# Altium schematic symbol library Converter_DCDC.SchLib: 658 symbols (part 6 of 7)
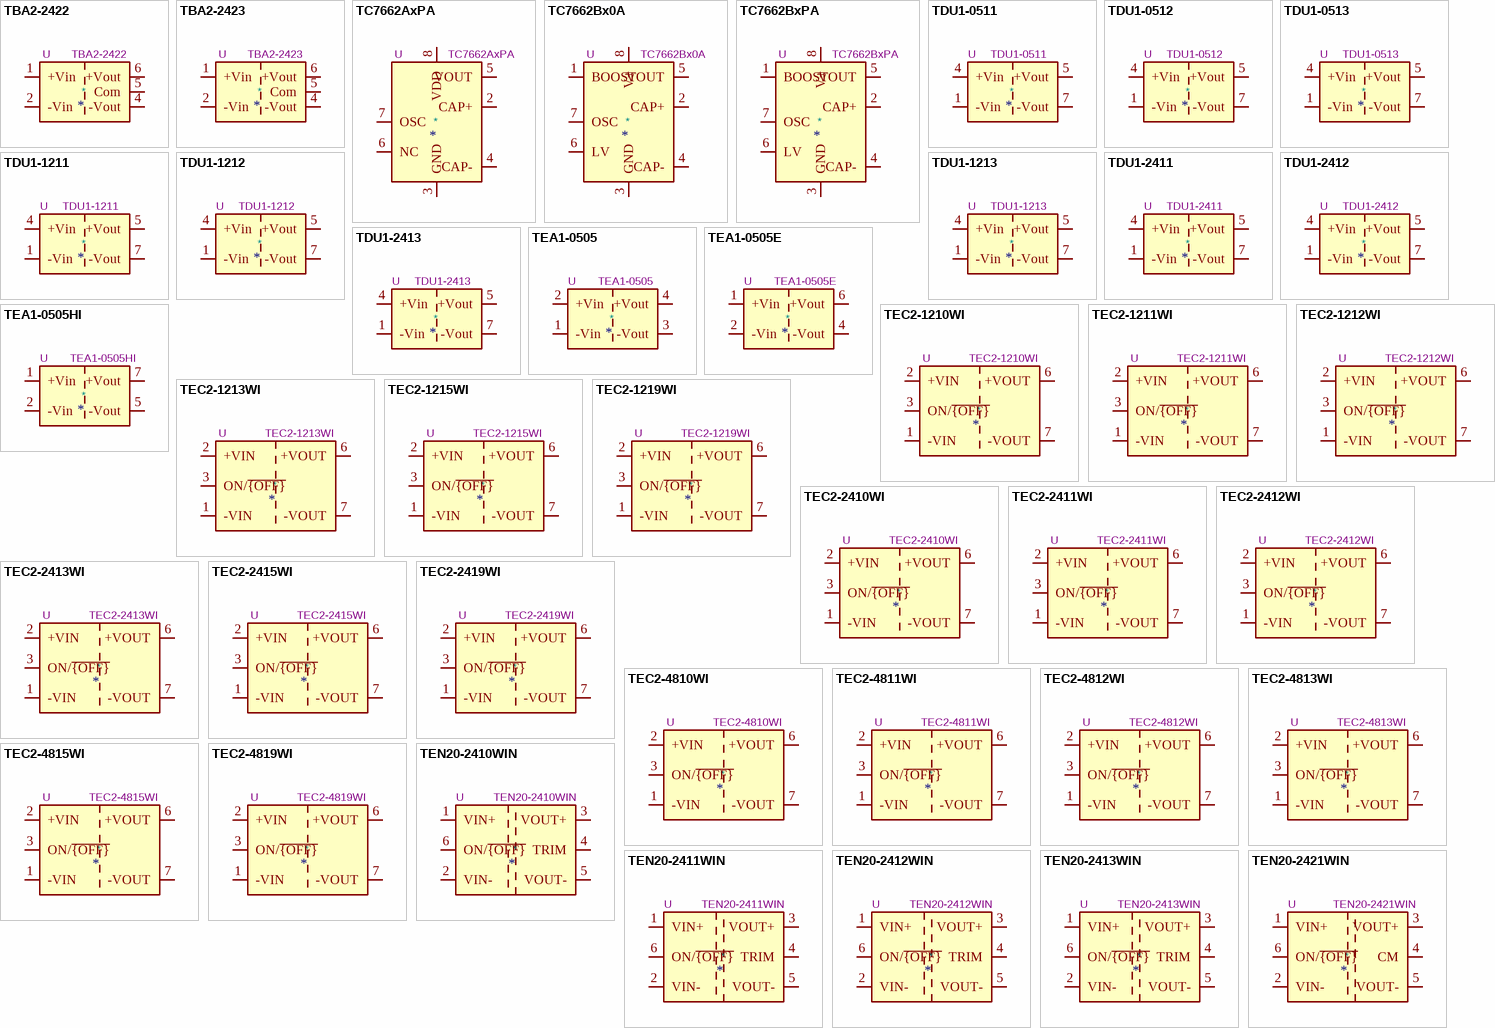
[diagram p21: symbols TBA2-2422 to TEN20-2421WIN]

## TDU1-2411
designator *  value TDU1-2411  Reference: U
ki_keywords: Traco isolated isolation dc-dc converter not-regulated non-regulated single 1W; ki_description: 1W DC/DC converter unregulated, 21.6-26.4V input, 5V output voltage, 200mA output, 1.5kVDC isolation, DIP-8; ki_fp_filters: Converter*DCDC*TRACO*TDU1*THT*; Footprint: Converter_DCDC:Converter_DCDC_TRACO_TDU1-xxxx_THT; Datasheet: https://www.tracopower.com/products/tdu1.pdf
pins: 1 -Vin, 4 +Vin, 5 +Vout, 7 -Vout

## TDU1-2412
designator *  value TDU1-2412  Reference: U
ki_keywords: Traco isolated isolation dc-dc converter not-regulated non-regulated single 1W; ki_description: 1W DC/DC converter unregulated, 21.6-26.4V input, 12V output voltage, 84mA output, 1.5kVDC isolation, DIP-8; ki_fp_filters: Converter*DCDC*TRACO*TDU1*THT*; Footprint: Converter_DCDC:Converter_DCDC_TRACO_TDU1-xxxx_THT; Datasheet: https://www.tracopower.com/products/tdu1.pdf
pins: 1 -Vin, 4 +Vin, 5 +Vout, 7 -Vout

## TDU1-2413
designator *  value TDU1-2413  Reference: U
ki_keywords: Traco isolated isolation dc-dc converter not-regulated non-regulated single 1W; ki_description: 1W DC/DC converter unregulated, 21.6-26.4V input, 15V output voltage, 67mA output, 1.5kVDC isolation, DIP-8; ki_fp_filters: Converter*DCDC*TRACO*TDU1*THT*; Footprint: Converter_DCDC:Converter_DCDC_TRACO_TDU1-xxxx_THT; Datasheet: https://www.tracopower.com/products/tdu1.pdf
pins: 1 -Vin, 4 +Vin, 5 +Vout, 7 -Vout

## TEA1-0505
designator *  value TEA1-0505  Reference: U
ki_keywords: Traco isolated isolation dc-dc converter not-regulated non-regulated single 1W; ki_description: 1W DC/DC converter unregulated, 4.5-5.5V input, 5V output voltage, 200mA output, 1.5kVDC isolation, SIP-4; ki_fp_filters: Converter*DCDC*TRACO*TEA1*THT*; Footprint: Converter_DCDC:Converter_DCDC_TRACO_TEA1-xxxx_THT; Datasheet: https://www.tracopower.com/products/tea1.pdf
pins: 1 -Vin, 2 +Vin, 3 -Vout, 4 +Vout

## TEA1-0505E
designator *  value TEA1-0505E  Reference: U
ki_keywords: Traco isolated isolation dc-dc converter not-regulated non-regulated single 1W; ki_description: 1W DC/DC converter unregulated, 4.5-5.5V input, 5V output voltage, 200mA output, 1.5kVDC isolation, SIP-7; ki_fp_filters: Converter*DCDC*TRACO*TEA1*xxxxE*THT*; Footprint: Converter_DCDC:Converter_DCDC_TRACO_TEA1-xxxxE_THT; Datasheet: https://www.tracopower.com/products/tea1e.pdf
pins: 1 +Vin, 2 -Vin, 4 -Vout, 6 +Vout

## TEA1-0505HI
designator *  value TEA1-0505HI  Reference: U
ki_keywords: Traco isolated isolation dc-dc converter not-regulated non-regulated single 1W; ki_description: 1W DC/DC converter unregulated, 4.5-5.5V input, 5V output voltage, 200mA output, 4kVDC isolation, SIP-7; ki_fp_filters: Converter*DCDC*TRACO*TEA1*xxxxHI*THT*; Footprint: Converter_DCDC:Converter_DCDC_TRACO_TEA1-xxxxHI_THT; Datasheet: https://www.tracopower.com/products/tea1hi.pdf
pins: 1 +Vin, 2 -Vin, 5 -Vout, 7 +Vout

## TEC2-1210WI
designator *  value TEC2-1210WI  Reference: U
ki_keywords: Traco isolated isolation dc-dc converter transformer; ki_description: 500mA Regulated 2W DC/DC converter with 1.5kV isolation, 4.5V-18V input, 3.3V fixed Output Voltage, SIP-8; ki_fp_filters: Converter*DCDC*TRACO*TMR*xxxx*; Footprint: Converter_DCDC:Converter_DCDC_TRACO_TMR-xxxx_THT; Datasheet: https://www.tracopower.com/products/tec2wi.pdf
pins: 1 -VIN, 2 +VIN, 3 ON/~{{OFF}}, 5 NC hidden, 6 +VOUT, 7 -VOUT, 8 NC hidden

## TEC2-1211WI
designator *  value TEC2-1211WI  Reference: U
ki_keywords: Traco isolated isolation dc-dc converter transformer; ki_description: 400mA Regulated 2W DC/DC converter with 1.5kV isolation, 4.5V-18V input, 5V fixed Output Voltage, SIP-8; ki_fp_filters: Converter*DCDC*TRACO*TMR*xxxx*; Footprint: Converter_DCDC:Converter_DCDC_TRACO_TMR-xxxx_THT; Datasheet: https://www.tracopower.com/products/tec2wi.pdf
pins: 1 -VIN, 2 +VIN, 3 ON/~{{OFF}}, 5 NC hidden, 6 +VOUT, 7 -VOUT, 8 NC hidden

## TEC2-1212WI
designator *  value TEC2-1212WI  Reference: U
ki_keywords: Traco isolated isolation dc-dc converter transformer; ki_description: 167mA Regulated 2W DC/DC converter with 1.5kV isolation, 4.5V-18V input, 12V fixed Output Voltage, SIP-8; ki_fp_filters: Converter*DCDC*TRACO*TMR*xxxx*; Footprint: Converter_DCDC:Converter_DCDC_TRACO_TMR-xxxx_THT; Datasheet: https://www.tracopower.com/products/tec2wi.pdf
pins: 1 -VIN, 2 +VIN, 3 ON/~{{OFF}}, 5 NC hidden, 6 +VOUT, 7 -VOUT, 8 NC hidden

## TEC2-1213WI
designator *  value TEC2-1213WI  Reference: U
ki_keywords: Traco isolated isolation dc-dc converter transformer; ki_description: 134mA Regulated 2W DC/DC converter with 1.5kV isolation, 4.5V-18V input, 15V fixed Output Voltage, SIP-8; ki_fp_filters: Converter*DCDC*TRACO*TMR*xxxx*; Footprint: Converter_DCDC:Converter_DCDC_TRACO_TMR-xxxx_THT; Datasheet: https://www.tracopower.com/products/tec2wi.pdf
pins: 1 -VIN, 2 +VIN, 3 ON/~{{OFF}}, 5 NC hidden, 6 +VOUT, 7 -VOUT, 8 NC hidden

## TEC2-1215WI
designator *  value TEC2-1215WI  Reference: U
ki_keywords: Traco isolated isolation dc-dc converter transformer; ki_description: 83mA Regulated 2W DC/DC converter with 1.5kV isolation, 4.5V-18V input, 24V fixed Output Voltage, SIP-8; ki_fp_filters: Converter*DCDC*TRACO*TMR*xxxx*; Footprint: Converter_DCDC:Converter_DCDC_TRACO_TMR-xxxx_THT; Datasheet: https://www.tracopower.com/products/tec2wi.pdf
pins: 1 -VIN, 2 +VIN, 3 ON/~{{OFF}}, 5 NC hidden, 6 +VOUT, 7 -VOUT, 8 NC hidden

## TEC2-1219WI
designator *  value TEC2-1219WI  Reference: U
ki_keywords: Traco isolated isolation dc-dc converter transformer; ki_description: 222mA Regulated 2W DC/DC converter with 1.5kV isolation, 4.5V-18V input, 9V fixed Output Voltage, SIP-8; ki_fp_filters: Converter*DCDC*TRACO*TMR*xxxx*; Footprint: Converter_DCDC:Converter_DCDC_TRACO_TMR-xxxx_THT; Datasheet: https://www.tracopower.com/products/tec2wi.pdf
pins: 1 -VIN, 2 +VIN, 3 ON/~{{OFF}}, 5 NC hidden, 6 +VOUT, 7 -VOUT, 8 NC hidden

## TEC2-2410WI
designator *  value TEC2-2410WI  Reference: U
ki_keywords: Traco isolated isolation dc-dc converter transformer; ki_description: 500mA Regulated 2W DC/DC converter with 1.5kV isolation, 9V-36V input, 3.3V fixed Output Voltage, SIP-8; ki_fp_filters: Converter*DCDC*TRACO*TMR*xxxx*; Footprint: Converter_DCDC:Converter_DCDC_TRACO_TMR-xxxx_THT; Datasheet: https://www.tracopower.com/products/tec2wi.pdf
pins: 1 -VIN, 2 +VIN, 3 ON/~{{OFF}}, 5 NC hidden, 6 +VOUT, 7 -VOUT, 8 NC hidden

## TEC2-2411WI
designator *  value TEC2-2411WI  Reference: U
ki_keywords: Traco isolated isolation dc-dc converter transformer; ki_description: 400mA Regulated 2W DC/DC converter with 1.5kV isolation, 9V-36V input, 5V fixed Output Voltage, SIP-8; ki_fp_filters: Converter*DCDC*TRACO*TMR*xxxx*; Footprint: Converter_DCDC:Converter_DCDC_TRACO_TMR-xxxx_THT; Datasheet: https://www.tracopower.com/products/tec2wi.pdf
pins: 1 -VIN, 2 +VIN, 3 ON/~{{OFF}}, 5 NC hidden, 6 +VOUT, 7 -VOUT, 8 NC hidden

## TEC2-2412WI
designator *  value TEC2-2412WI  Reference: U
ki_keywords: Traco isolated isolation dc-dc converter transformer; ki_description: 167mA Regulated 2W DC/DC converter with 1.5kV isolation, 9V-36V input, 12V fixed Output Voltage, SIP-8; ki_fp_filters: Converter*DCDC*TRACO*TMR*xxxx*; Footprint: Converter_DCDC:Converter_DCDC_TRACO_TMR-xxxx_THT; Datasheet: https://www.tracopower.com/products/tec2wi.pdf
pins: 1 -VIN, 2 +VIN, 3 ON/~{{OFF}}, 5 NC hidden, 6 +VOUT, 7 -VOUT, 8 NC hidden

## TEC2-2413WI
designator *  value TEC2-2413WI  Reference: U
ki_keywords: Traco isolated isolation dc-dc converter transformer; ki_description: 134mA Regulated 2W DC/DC converter with 1.5kV isolation, 9V-36V input, 15V fixed Output Voltage, SIP-8; ki_fp_filters: Converter*DCDC*TRACO*TMR*xxxx*; Footprint: Converter_DCDC:Converter_DCDC_TRACO_TMR-xxxx_THT; Datasheet: https://www.tracopower.com/products/tec2wi.pdf
pins: 1 -VIN, 2 +VIN, 3 ON/~{{OFF}}, 5 NC hidden, 6 +VOUT, 7 -VOUT, 8 NC hidden

## TEC2-2415WI
designator *  value TEC2-2415WI  Reference: U
ki_keywords: Traco isolated isolation dc-dc converter transformer; ki_description: 83mA Regulated 2W DC/DC converter with 1.5kV isolation, 9V-36V input, 24V fixed Output Voltage, SIP-8; ki_fp_filters: Converter*DCDC*TRACO*TMR*xxxx*; Footprint: Converter_DCDC:Converter_DCDC_TRACO_TMR-xxxx_THT; Datasheet: https://www.tracopower.com/products/tec2wi.pdf
pins: 1 -VIN, 2 +VIN, 3 ON/~{{OFF}}, 5 NC hidden, 6 +VOUT, 7 -VOUT, 8 NC hidden

## TEC2-2419WI
designator *  value TEC2-2419WI  Reference: U
ki_keywords: Traco isolated isolation dc-dc converter transformer; ki_description: 222mA Regulated 2W DC/DC converter with 1.5kV isolation, 9V-36V input, 9V fixed Output Voltage, SIP-8; ki_fp_filters: Converter*DCDC*TRACO*TMR*xxxx*; Footprint: Converter_DCDC:Converter_DCDC_TRACO_TMR-xxxx_THT; Datasheet: https://www.tracopower.com/products/tec2wi.pdf
pins: 1 -VIN, 2 +VIN, 3 ON/~{{OFF}}, 5 NC hidden, 6 +VOUT, 7 -VOUT, 8 NC hidden

## TEC2-4810WI
designator *  value TEC2-4810WI  Reference: U
ki_keywords: Traco isolated isolation dc-dc converter transformer; ki_description: 500mA Regulated 2W DC/DC converter with 1.5kV isolation, 18V-75V input, 3.3V fixed Output Voltage, SIP-8; ki_fp_filters: Converter*DCDC*TRACO*TMR*xxxx*; Footprint: Converter_DCDC:Converter_DCDC_TRACO_TMR-xxxx_THT; Datasheet: https://www.tracopower.com/products/tec2wi.pdf
pins: 1 -VIN, 2 +VIN, 3 ON/~{{OFF}}, 5 NC hidden, 6 +VOUT, 7 -VOUT, 8 NC hidden

## TEC2-4811WI
designator *  value TEC2-4811WI  Reference: U
ki_keywords: Traco isolated isolation dc-dc converter transformer; ki_description: 400mA Regulated 2W DC/DC converter with 1.5kV isolation, 18V-75V input, 5V fixed Output Voltage, SIP-8; ki_fp_filters: Converter*DCDC*TRACO*TMR*xxxx*; Footprint: Converter_DCDC:Converter_DCDC_TRACO_TMR-xxxx_THT; Datasheet: https://www.tracopower.com/products/tec2wi.pdf
pins: 1 -VIN, 2 +VIN, 3 ON/~{{OFF}}, 5 NC hidden, 6 +VOUT, 7 -VOUT, 8 NC hidden

## TEC2-4812WI
designator *  value TEC2-4812WI  Reference: U
ki_keywords: Traco isolated isolation dc-dc converter transformer; ki_description: 167mA Regulated 2W DC/DC converter with 1.5kV isolation, 18V-75V input, 12V fixed Output Voltage, SIP-8; ki_fp_filters: Converter*DCDC*TRACO*TMR*xxxx*; Footprint: Converter_DCDC:Converter_DCDC_TRACO_TMR-xxxx_THT; Datasheet: https://www.tracopower.com/products/tec2wi.pdf
pins: 1 -VIN, 2 +VIN, 3 ON/~{{OFF}}, 5 NC hidden, 6 +VOUT, 7 -VOUT, 8 NC hidden

## TEC2-4813WI
designator *  value TEC2-4813WI  Reference: U
ki_keywords: Traco isolated isolation dc-dc converter transformer; ki_description: 134mA Regulated 2W DC/DC converter with 1.5kV isolation, 18V-75V input, 15V fixed Output Voltage, SIP-8; ki_fp_filters: Converter*DCDC*TRACO*TMR*xxxx*; Footprint: Converter_DCDC:Converter_DCDC_TRACO_TMR-xxxx_THT; Datasheet: https://www.tracopower.com/products/tec2wi.pdf
pins: 1 -VIN, 2 +VIN, 3 ON/~{{OFF}}, 5 NC hidden, 6 +VOUT, 7 -VOUT, 8 NC hidden

## TEC2-4815WI
designator *  value TEC2-4815WI  Reference: U
ki_keywords: Traco isolated isolation dc-dc converter transformer; ki_description: 83mA Regulated 2W DC/DC converter with 1.5kV isolation, 18V-75V input, 24V fixed Output Voltage, SIP-8; ki_fp_filters: Converter*DCDC*TRACO*TMR*xxxx*; Footprint: Converter_DCDC:Converter_DCDC_TRACO_TMR-xxxx_THT; Datasheet: https://www.tracopower.com/products/tec2wi.pdf
pins: 1 -VIN, 2 +VIN, 3 ON/~{{OFF}}, 5 NC hidden, 6 +VOUT, 7 -VOUT, 8 NC hidden

## TEC2-4819WI
designator *  value TEC2-4819WI  Reference: U
ki_keywords: Traco isolated isolation dc-dc converter transformer; ki_description: 222mA Regulated 2W DC/DC converter with 1.5kV isolation, 18V-75V input, 9V fixed Output Voltage, SIP-8; ki_fp_filters: Converter*DCDC*TRACO*TMR*xxxx*; Footprint: Converter_DCDC:Converter_DCDC_TRACO_TMR-xxxx_THT; Datasheet: https://www.tracopower.com/products/tec2wi.pdf
pins: 1 -VIN, 2 +VIN, 3 ON/~{{OFF}}, 5 NC hidden, 6 +VOUT, 7 -VOUT, 8 NC hidden

## TEN20-2410WIN
designator *  value TEN20-2410WIN  Reference: U
ki_keywords: Traco isolated DC/DC Converter module; ki_description: 5.5A Isolated DC/DC Converter Module, fixed 3.3V Output Voltage, 9-36V Input Voltage; ki_fp_filters: *TRACO*TEN20*xxxx*; Footprint: Converter_DCDC:Converter_DCDC_TRACO_TEN20-xxxx_THT; Datasheet: http://www.tracopower.com/products/ten20win.pdf
pins: 1 VIN+, 2 VIN-, 3 VOUT+, 4 TRIM, 5 VOUT-, 6 ON/~{{OFF}}

## TEN20-2411WIN
designator *  value TEN20-2411WIN  Reference: U
ki_keywords: Traco isolated DC/DC Converter module; ki_description: 4A Isolated DC/DC Converter Module, fixed 5V Output Voltage, 9-36V Input Voltage; ki_fp_filters: *TRACO*TEN20*xxxx*; Footprint: Converter_DCDC:Converter_DCDC_TRACO_TEN20-xxxx_THT; Datasheet: http://www.tracopower.com/products/ten20win.pdf
pins: 1 VIN+, 2 VIN-, 3 VOUT+, 4 TRIM, 5 VOUT-, 6 ON/~{{OFF}}

## TEN20-2412WIN
designator *  value TEN20-2412WIN  Reference: U
ki_keywords: Traco isolated DC/DC Converter module; ki_description: 1.67A Isolated DC/DC Converter Module, fixed 12V Output Voltage, 9-36V Input Voltage; ki_fp_filters: *TRACO*TEN20*xxxx*; Footprint: Converter_DCDC:Converter_DCDC_TRACO_TEN20-xxxx_THT; Datasheet: http://www.tracopower.com/products/ten20win.pdf
pins: 1 VIN+, 2 VIN-, 3 VOUT+, 4 TRIM, 5 VOUT-, 6 ON/~{{OFF}}

## TEN20-2413WIN
designator *  value TEN20-2413WIN  Reference: U
ki_keywords: Traco isolated DC/DC Converter module; ki_description: 1.33A Isolated DC/DC Converter Module, fixed 15V Output Voltage, 9-36V Input Voltage; ki_fp_filters: *TRACO*TEN20*xxxx*; Footprint: Converter_DCDC:Converter_DCDC_TRACO_TEN20-xxxx_THT; Datasheet: http://www.tracopower.com/products/ten20win.pdf
pins: 1 VIN+, 2 VIN-, 3 VOUT+, 4 TRIM, 5 VOUT-, 6 ON/~{{OFF}}

## TEN20-2421WIN
designator *  value TEN20-2421WIN  Reference: U
ki_keywords: Traco isolated DC/DC Converter module; ki_description: 2A Isolated DC/DC Dual Supply Converter Module, fixed +-5V Output Voltage, 9-36V Input Voltage; ki_fp_filters: *TRACO*TEN20*xxxx*; Footprint: Converter_DCDC:Converter_DCDC_TRACO_TEN20-xxxx_THT; Datasheet: http://www.tracopower.com/products/ten20win.pdf
pins: 1 VIN+, 2 VIN-, 3 VOUT+, 4 CM, 5 VOUT-, 6 ON/~{{OFF}}

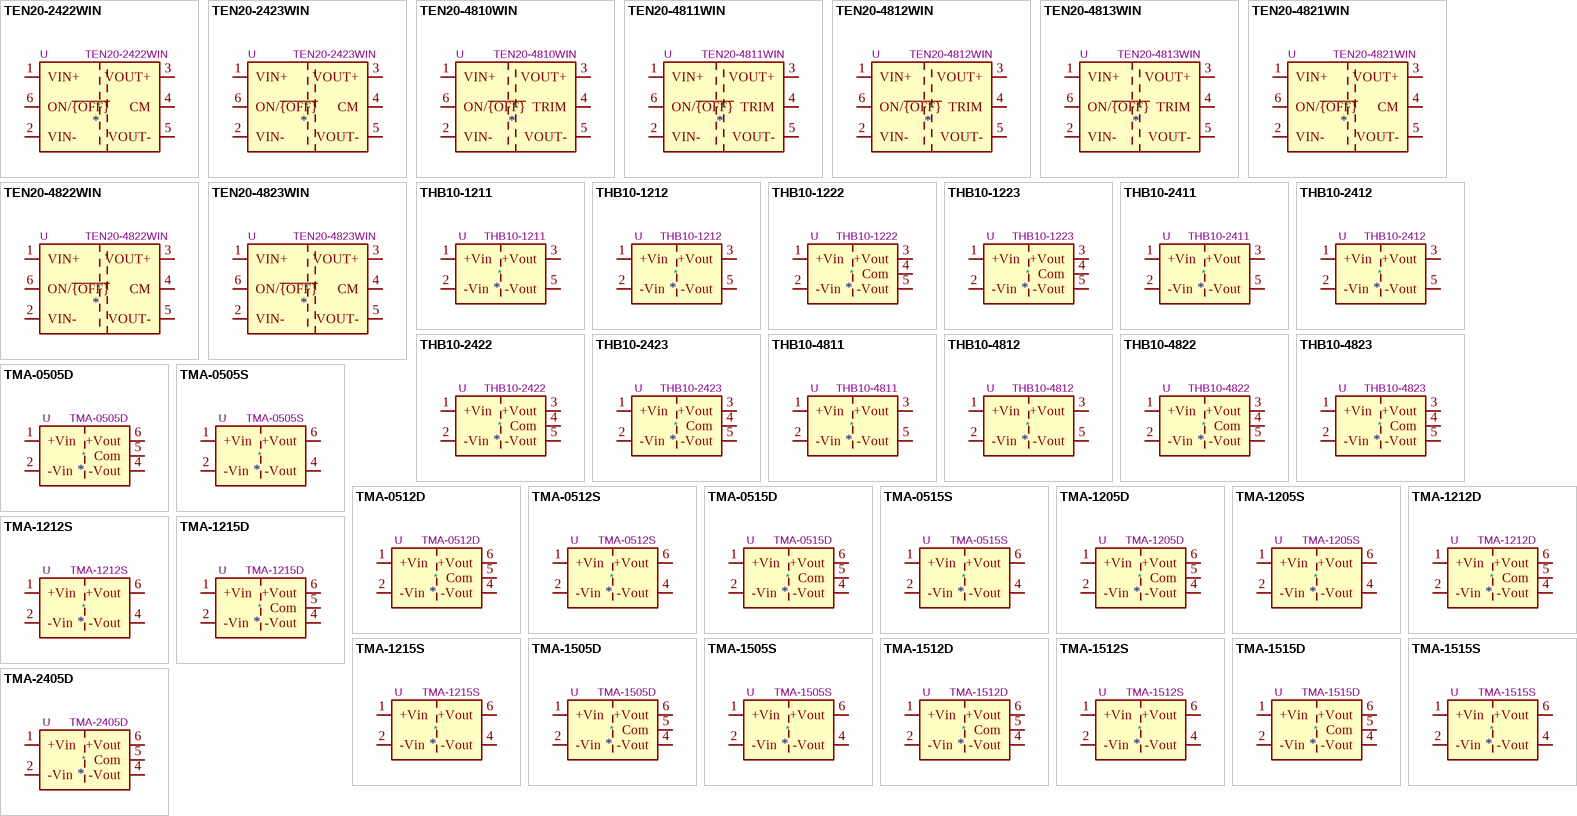
[diagram p14: symbols TEN20-2422WIN to TMA-2405D]

## TEN20-2422WIN
designator *  value TEN20-2422WIN  Reference: U
ki_keywords: Traco isolated DC/DC Converter module; ki_description: 835mA Isolated DC/DC Dual Supply Converter Module, fixed +-12V Output Voltage, 9-36V Input Voltage; ki_fp_filters: *TRACO*TEN20*xxxx*; Footprint: Converter_DCDC:Converter_DCDC_TRACO_TEN20-xxxx_THT; Datasheet: http://www.tracopower.com/products/ten20win.pdf
pins: 1 VIN+, 2 VIN-, 3 VOUT+, 4 CM, 5 VOUT-, 6 ON/~{{OFF}}

## TEN20-2423WIN
designator *  value TEN20-2423WIN  Reference: U
ki_keywords: Traco isolated DC/DC Converter module; ki_description: 665mA Isolated DC/DC Dual Supply Converter Module, fixed +-15V Output Voltage, 9-36V Input Voltage; ki_fp_filters: *TRACO*TEN20*xxxx*; Footprint: Converter_DCDC:Converter_DCDC_TRACO_TEN20-xxxx_THT; Datasheet: http://www.tracopower.com/products/ten20win.pdf
pins: 1 VIN+, 2 VIN-, 3 VOUT+, 4 CM, 5 VOUT-, 6 ON/~{{OFF}}

## TEN20-4810WIN
designator *  value TEN20-4810WIN  Reference: U
ki_keywords: Traco isolated DC/DC Converter module; ki_description: 5.5A Isolated DC/DC Converter Module, fixed 3.3V Output Voltage, 18-75V Input Voltage; ki_fp_filters: *TRACO*TEN20*xxxx*; Footprint: Converter_DCDC:Converter_DCDC_TRACO_TEN20-xxxx_THT; Datasheet: http://www.tracopower.com/products/ten20win.pdf
pins: 1 VIN+, 2 VIN-, 3 VOUT+, 4 TRIM, 5 VOUT-, 6 ON/~{{OFF}}

## TEN20-4811WIN
designator *  value TEN20-4811WIN  Reference: U
ki_keywords: Traco isolated DC/DC Converter module; ki_description: 4A Isolated DC/DC Converter Module, fixed 5V Output Voltage, 18-75V Input Voltage; ki_fp_filters: *TRACO*TEN20*xxxx*; Footprint: Converter_DCDC:Converter_DCDC_TRACO_TEN20-xxxx_THT; Datasheet: http://www.tracopower.com/products/ten20win.pdf
pins: 1 VIN+, 2 VIN-, 3 VOUT+, 4 TRIM, 5 VOUT-, 6 ON/~{{OFF}}

## TEN20-4812WIN
designator *  value TEN20-4812WIN  Reference: U
ki_keywords: Traco isolated DC/DC Converter module; ki_description: 1.67A Isolated DC/DC Converter Module, fixed 12V Output Voltage, 18-75V Input Voltage; ki_fp_filters: *TRACO*TEN20*xxxx*; Footprint: Converter_DCDC:Converter_DCDC_TRACO_TEN20-xxxx_THT; Datasheet: http://www.tracopower.com/products/ten20win.pdf
pins: 1 VIN+, 2 VIN-, 3 VOUT+, 4 TRIM, 5 VOUT-, 6 ON/~{{OFF}}

## TEN20-4813WIN
designator *  value TEN20-4813WIN  Reference: U
ki_keywords: Traco isolated DC/DC Converter module; ki_description: 1.33A Isolated DC/DC Converter Module, fixed 15V Output Voltage, 18-75V Input Voltage; ki_fp_filters: *TRACO*TEN20*xxxx*; Footprint: Converter_DCDC:Converter_DCDC_TRACO_TEN20-xxxx_THT; Datasheet: http://www.tracopower.com/products/ten20win.pdf
pins: 1 VIN+, 2 VIN-, 3 VOUT+, 4 TRIM, 5 VOUT-, 6 ON/~{{OFF}}

## TEN20-4821WIN
designator *  value TEN20-4821WIN  Reference: U
ki_keywords: Traco isolated DC/DC Converter module; ki_description: 2A Isolated DC/DC Dual Supply Converter Module, fixed +-5V Output Voltage, 18-75V Input Voltage; ki_fp_filters: *TRACO*TEN20*xxxx*; Footprint: Converter_DCDC:Converter_DCDC_TRACO_TEN20-xxxx_THT; Datasheet: http://www.tracopower.com/products/ten20win.pdf
pins: 1 VIN+, 2 VIN-, 3 VOUT+, 4 CM, 5 VOUT-, 6 ON/~{{OFF}}

## TEN20-4822WIN
designator *  value TEN20-4822WIN  Reference: U
ki_keywords: Traco isolated DC/DC Converter module; ki_description: 835mA Isolated DC/DC Dual Supply Converter Module, fixed +-12V Output Voltage, 18-75V Input Voltage; ki_fp_filters: *TRACO*TEN20*xxxx*; Footprint: Converter_DCDC:Converter_DCDC_TRACO_TEN20-xxxx_THT; Datasheet: http://www.tracopower.com/products/ten20win.pdf
pins: 1 VIN+, 2 VIN-, 3 VOUT+, 4 CM, 5 VOUT-, 6 ON/~{{OFF}}

## TEN20-4823WIN
designator *  value TEN20-4823WIN  Reference: U
ki_keywords: Traco isolated DC/DC Converter module; ki_description: 665mA Isolated DC/DC Dual Supply Converter Module, fixed +-15V Output Voltage, 18-75V Input Voltage; ki_fp_filters: *TRACO*TEN20*xxxx*; Footprint: Converter_DCDC:Converter_DCDC_TRACO_TEN20-xxxx_THT; Datasheet: http://www.tracopower.com/products/ten20win.pdf
pins: 1 VIN+, 2 VIN-, 3 VOUT+, 4 CM, 5 VOUT-, 6 ON/~{{OFF}}

## THB10-1211
designator *  value THB10-1211  Reference: U
ki_keywords: Traco reinforced isolated isolation dc-dc converter regulated single 10W; ki_description: 10W DC/DC converter regulated, 9-18V input, 5.1V fixed output voltage, 1600mA output, reinforced 4.2kVAC isolation, 2"x1"; ki_fp_filters: Converter*DCDC*TRACO*THB10*xxxx*Single*; Footprint: Converter_DCDC:Converter_DCDC_TRACO_THB10-xxxx_Single_THT; Datasheet: https://www.tracopower.com/products/thb10.pdf
pins: 1 +Vin, 2 -Vin, 3 +Vout, 5 -Vout

## THB10-1212
designator *  value THB10-1212  Reference: U
ki_keywords: Traco reinforced isolated isolation dc-dc converter regulated single 10W; ki_description: 10W DC/DC converter regulated, 9-18V input, 12V fixed output voltage, 835mA output, reinforced 4.2kVAC isolation, 2"x1"; ki_fp_filters: Converter*DCDC*TRACO*THB10*xxxx*Single*; Footprint: Converter_DCDC:Converter_DCDC_TRACO_THB10-xxxx_Single_THT; Datasheet: https://www.tracopower.com/products/thb10.pdf
pins: 1 +Vin, 2 -Vin, 3 +Vout, 5 -Vout

## THB10-1222
designator *  value THB10-1222  Reference: U
ki_keywords: Traco reinforced isolated isolation dc-dc converter regulated dual 10W; ki_description: 10W DC/DC converter regulated, 9-18V input, ±12V fixed output voltage, 417mA each output, reinforced 4.2kVAC isolation, 2"x1"; ki_fp_filters: Converter*DCDC*TRACO*THB10*xxxx*Dual*; Footprint: Converter_DCDC:Converter_DCDC_TRACO_THB10-xxxx_Dual_THT; Datasheet: https://www.tracopower.com/products/thb10.pdf
pins: 1 +Vin, 2 -Vin, 3 +Vout, 4 Com, 5 -Vout

## THB10-1223
designator *  value THB10-1223  Reference: U
ki_keywords: Traco reinforced isolated isolation dc-dc converter regulated dual 10W; ki_description: 10W DC/DC converter regulated, 9-18V input, ±15V fixed output voltage, 333mA each output, reinforced 4.2kVAC isolation, 2"x1"; ki_fp_filters: Converter*DCDC*TRACO*THB10*xxxx*Dual*; Footprint: Converter_DCDC:Converter_DCDC_TRACO_THB10-xxxx_Dual_THT; Datasheet: https://www.tracopower.com/products/thb10.pdf
pins: 1 +Vin, 2 -Vin, 3 +Vout, 4 Com, 5 -Vout

## THB10-2411
designator *  value THB10-2411  Reference: U
ki_keywords: Traco reinforced isolated isolation dc-dc converter regulated single 10W; ki_description: 10W DC/DC converter regulated, 18-36V input, 5.1V fixed output voltage, 2000mA output, reinforced 4.2kVAC isolation, 2"x1"; ki_fp_filters: Converter*DCDC*TRACO*THB10*xxxx*Single*; Footprint: Converter_DCDC:Converter_DCDC_TRACO_THB10-xxxx_Single_THT; Datasheet: https://www.tracopower.com/products/thb10.pdf
pins: 1 +Vin, 2 -Vin, 3 +Vout, 5 -Vout

## THB10-2412
designator *  value THB10-2412  Reference: U
ki_keywords: Traco reinforced isolated isolation dc-dc converter regulated single 10W; ki_description: 10W DC/DC converter regulated, 18-36V input, 12V fixed output voltage, 835mA output, reinforced 4.2kVAC isolation, 2"x1"; ki_fp_filters: Converter*DCDC*TRACO*THB10*xxxx*Single*; Footprint: Converter_DCDC:Converter_DCDC_TRACO_THB10-xxxx_Single_THT; Datasheet: https://www.tracopower.com/products/thb10.pdf
pins: 1 +Vin, 2 -Vin, 3 +Vout, 5 -Vout

## THB10-2422
designator *  value THB10-2422  Reference: U
ki_keywords: Traco reinforced isolated isolation dc-dc converter regulated dual 10W; ki_description: 10W DC/DC converter regulated, 18-36V input, ±12V fixed output voltage, 417mA each output, reinforced 4.2kVAC isolation, 2"x1"; ki_fp_filters: Converter*DCDC*TRACO*THB10*xxxx*Dual*; Footprint: Converter_DCDC:Converter_DCDC_TRACO_THB10-xxxx_Dual_THT; Datasheet: https://www.tracopower.com/products/thb10.pdf
pins: 1 +Vin, 2 -Vin, 3 +Vout, 4 Com, 5 -Vout

## THB10-2423
designator *  value THB10-2423  Reference: U
ki_keywords: Traco reinforced isolated isolation dc-dc converter regulated dual 10W; ki_description: 10W DC/DC converter regulated, 18-36V input, ±15V fixed output voltage, 333mA each output, reinforced 4.2kVAC isolation, 2"x1"; ki_fp_filters: Converter*DCDC*TRACO*THB10*xxxx*Dual*; Footprint: Converter_DCDC:Converter_DCDC_TRACO_THB10-xxxx_Dual_THT; Datasheet: https://www.tracopower.com/products/thb10.pdf
pins: 1 +Vin, 2 -Vin, 3 +Vout, 4 Com, 5 -Vout

## THB10-4811
designator *  value THB10-4811  Reference: U
ki_keywords: Traco reinforced isolated isolation dc-dc converter regulated single 10W; ki_description: 10W DC/DC converter regulated, 36-75V input, 5.1V fixed output voltage, 2000mA output, reinforced 4.2kVAC isolation, 2"x1"; ki_fp_filters: Converter*DCDC*TRACO*THB10*xxxx*Single*; Footprint: Converter_DCDC:Converter_DCDC_TRACO_THB10-xxxx_Single_THT; Datasheet: https://www.tracopower.com/products/thb10.pdf
pins: 1 +Vin, 2 -Vin, 3 +Vout, 5 -Vout

## THB10-4812
designator *  value THB10-4812  Reference: U
ki_keywords: Traco reinforced isolated isolation dc-dc converter regulated single 10W; ki_description: 10W DC/DC converter regulated, 36-75V input, 12V fixed output voltage, 835mA output, reinforced 4.2kVAC isolation, 2"x1"; ki_fp_filters: Converter*DCDC*TRACO*THB10*xxxx*Single*; Footprint: Converter_DCDC:Converter_DCDC_TRACO_THB10-xxxx_Single_THT; Datasheet: https://www.tracopower.com/products/thb10.pdf
pins: 1 +Vin, 2 -Vin, 3 +Vout, 5 -Vout

## THB10-4822
designator *  value THB10-4822  Reference: U
ki_keywords: Traco reinforced isolated isolation dc-dc converter regulated dual 10W; ki_description: 10W DC/DC converter regulated, 36-75V input, ±12V fixed output voltage, 417mA each output, reinforced 4.2kVAC isolation, 2"x1"; ki_fp_filters: Converter*DCDC*TRACO*THB10*xxxx*Dual*; Footprint: Converter_DCDC:Converter_DCDC_TRACO_THB10-xxxx_Dual_THT; Datasheet: https://www.tracopower.com/products/thb10.pdf
pins: 1 +Vin, 2 -Vin, 3 +Vout, 4 Com, 5 -Vout

## THB10-4823
designator *  value THB10-4823  Reference: U
ki_keywords: Traco reinforced isolated isolation dc-dc converter regulated dual 10W; ki_description: 10W DC/DC converter regulated, 36-75V input, ±15V fixed output voltage, 333mA each output, reinforced 4.2kVAC isolation, 2"x1"; ki_fp_filters: Converter*DCDC*TRACO*THB10*xxxx*Dual*; Footprint: Converter_DCDC:Converter_DCDC_TRACO_THB10-xxxx_Dual_THT; Datasheet: https://www.tracopower.com/products/thb10.pdf
pins: 1 +Vin, 2 -Vin, 3 +Vout, 4 Com, 5 -Vout

## TMA-0505D
designator *  value TMA-0505D  Reference: U
ki_keywords: Traco isolated isolation dc-dc DC/DC converter not-regulated non-regulated dual 1W; ki_description: 1W DC/DC converter unregulated, 4.5-5.5V input, ±5V fixed output voltage, 100mA each output, 1.0kVDC isolation, SIP-7; ki_fp_filters: Converter*DCDC*TRACO*TMA*05xx*Dual*; Footprint: Converter_DCDC:Converter_DCDC_TRACO_TMA-05xxD_12xxD_Dual_THT; Datasheet: https://www.tracopower.com/products/tma.pdf
pins: 1 +Vin, 2 -Vin, 4 -Vout, 5 Com, 6 +Vout

## TMA-0505S
designator *  value TMA-0505S  Reference: U
ki_keywords: Traco isolated isolation dc-dc converter not-regulated non-regulated single 1W; ki_description: 1W DC/DC converter unregulated, 4.5-5.5V input, 5V fixed output voltage, 200mA output, 1.0kVDC isolation, SIP-7; ki_fp_filters: Converter*DCDC*TRACO*TMA*05xx*Single*; Footprint: Converter_DCDC:Converter_DCDC_TRACO_TMA-05xxS_12xxS_Single_THT; Datasheet: https://www.tracopower.com/products/tma.pdf
pins: 1 +Vin, 2 -Vin, 4 -Vout, 6 +Vout

## TMA-0512D
designator *  value TMA-0512D  Reference: U
ki_keywords: Traco isolated isolation dc-dc DC/DC converter not-regulated non-regulated dual 1W; ki_description: 1W DC/DC converter unregulated, 4.5-5.5V input, ±12V fixed output voltage, 42mA each output, 1.0kVDC isolation, SIP-7; ki_fp_filters: Converter*DCDC*TRACO*TMA*05xx*Dual*; Footprint: Converter_DCDC:Converter_DCDC_TRACO_TMA-05xxD_12xxD_Dual_THT; Datasheet: https://www.tracopower.com/products/tma.pdf
pins: 1 +Vin, 2 -Vin, 4 -Vout, 5 Com, 6 +Vout

## TMA-0512S
designator *  value TMA-0512S  Reference: U
ki_keywords: Traco isolated isolation dc-dc converter not-regulated non-regulated single 1W; ki_description: 1W DC/DC converter unregulated, 4.5-5.5V input, 12V fixed output voltage, 84mA output, 1.0kVDC isolation, SIP-7; ki_fp_filters: Converter*DCDC*TRACO*TMA*05xx*Single*; Footprint: Converter_DCDC:Converter_DCDC_TRACO_TMA-05xxS_12xxS_Single_THT; Datasheet: https://www.tracopower.com/products/tma.pdf
pins: 1 +Vin, 2 -Vin, 4 -Vout, 6 +Vout

## TMA-0515D
designator *  value TMA-0515D  Reference: U
ki_keywords: Traco isolated isolation dc-dc DC/DC converter not-regulated non-regulated dual 1W; ki_description: 1W DC/DC converter unregulated, 4.5-5.5V input, ±15V fixed output voltage, 34mA each output, 1.0kVDC isolation, SIP-7; ki_fp_filters: Converter*DCDC*TRACO*TMA*05xx*Dual*; Footprint: Converter_DCDC:Converter_DCDC_TRACO_TMA-05xxD_12xxD_Dual_THT; Datasheet: https://www.tracopower.com/products/tma.pdf
pins: 1 +Vin, 2 -Vin, 4 -Vout, 5 Com, 6 +Vout

## TMA-0515S
designator *  value TMA-0515S  Reference: U
ki_keywords: Traco isolated isolation dc-dc converter not-regulated non-regulated single 1W; ki_description: 1W DC/DC converter unregulated, 4.5-5.5V input, 15V fixed output voltage, 67mA output, 1.0kVDC isolation, SIP-7; ki_fp_filters: Converter*DCDC*TRACO*TMA*05xx*Single*; Footprint: Converter_DCDC:Converter_DCDC_TRACO_TMA-05xxS_12xxS_Single_THT; Datasheet: https://www.tracopower.com/products/tma.pdf
pins: 1 +Vin, 2 -Vin, 4 -Vout, 6 +Vout

## TMA-1205D
designator *  value TMA-1205D  Reference: U
ki_keywords: Traco isolated isolation dc-dc DC/DC converter not-regulated non-regulated dual 1W; ki_description: 1W DC/DC converter unregulated, 10.8-13.2V input, ±5V fixed output voltage, 100mA each output, 1.0kVDC isolation, SIP-7; ki_fp_filters: Converter*DCDC*TRACO*TMA*12xx*Dual*; Footprint: Converter_DCDC:Converter_DCDC_TRACO_TMA-05xxD_12xxD_Dual_THT; Datasheet: https://www.tracopower.com/products/tma.pdf
pins: 1 +Vin, 2 -Vin, 4 -Vout, 5 Com, 6 +Vout

## TMA-1205S
designator *  value TMA-1205S  Reference: U
ki_keywords: Traco isolated isolation dc-dc converter not-regulated non-regulated single 1W; ki_description: 1W DC/DC converter unregulated, 10.8-13.2V input, 5V fixed output voltage, 200mA output, 1.0kVDC isolation, SIP-7; ki_fp_filters: Converter*DCDC*TRACO*TMA*12xx*Single*; Footprint: Converter_DCDC:Converter_DCDC_TRACO_TMA-05xxS_12xxS_Single_THT; Datasheet: https://www.tracopower.com/products/tma.pdf
pins: 1 +Vin, 2 -Vin, 4 -Vout, 6 +Vout

## TMA-1212D
designator *  value TMA-1212D  Reference: U
ki_keywords: Traco isolated isolation dc-dc DC/DC converter not-regulated non-regulated dual 1W; ki_description: 1W DC/DC converter unregulated, 10.8-13.2 input, ±12V fixed output voltage, 42mA each output, 1.0kVDC isolation, SIP-7; ki_fp_filters: Converter*DCDC*TRACO*TMA*12xx*Dual*; Footprint: Converter_DCDC:Converter_DCDC_TRACO_TMA-05xxD_12xxD_Dual_THT; Datasheet: https://www.tracopower.com/products/tma.pdf
pins: 1 +Vin, 2 -Vin, 4 -Vout, 5 Com, 6 +Vout

## TMA-1212S
designator *  value TMA-1212S  Reference: U
ki_keywords: Traco isolated isolation dc-dc converter not-regulated non-regulated single 1W; ki_description: 1W DC/DC converter unregulated, 10.8-13.2V input, 12V fixed output voltage, 84mA output, 1.0kVDC isolation, SIP-7; ki_fp_filters: Converter*DCDC*TRACO*TMA*12xx*Single*; Footprint: Converter_DCDC:Converter_DCDC_TRACO_TMA-05xxS_12xxS_Single_THT; Datasheet: https://www.tracopower.com/products/tma.pdf
pins: 1 +Vin, 2 -Vin, 4 -Vout, 6 +Vout

## TMA-1215D
designator *  value TMA-1215D  Reference: U
ki_keywords: Traco isolated isolation dc-dc DC/DC converter not-regulated non-regulated dual 1W; ki_description: 1W DC/DC converter unregulated, 10.8-13.2V input, ±15V fixed output voltage, 34mA each output, 1.0kVDC isolation, SIP-7; ki_fp_filters: Converter*DCDC*TRACO*TMA*12xx*Dual*; Footprint: Converter_DCDC:Converter_DCDC_TRACO_TMA-05xxD_12xxD_Dual_THT; Datasheet: https://www.tracopower.com/products/tma.pdf
pins: 1 +Vin, 2 -Vin, 4 -Vout, 5 Com, 6 +Vout

## TMA-1215S
designator *  value TMA-1215S  Reference: U
ki_keywords: Traco isolated isolation dc-dc converter not-regulated non-regulated single 1W; ki_description: 1W DC/DC converter unregulated, 10.8-13.2V input, 15V fixed output voltage, 67mA output, 1.0kVDC isolation, SIP-7; ki_fp_filters: Converter*DCDC*TRACO*TMA*12xx*Single*; Footprint: Converter_DCDC:Converter_DCDC_TRACO_TMA-05xxS_12xxS_Single_THT; Datasheet: https://www.tracopower.com/products/tma.pdf
pins: 1 +Vin, 2 -Vin, 4 -Vout, 6 +Vout

## TMA-1505D
designator *  value TMA-1505D  Reference: U
ki_keywords: Traco isolated isolation dc-dc DC/DC converter not-regulated non-regulated dual 1W; ki_description: 1W DC/DC converter unregulated, 13.5-16.5V input, ±5V fixed output voltage, 100mA each output, 1.0kVDC isolation, SIP-7; ki_fp_filters: Converter*DCDC*TRACO*TMA*15xx*Dual*; Footprint: Converter_DCDC:Converter_DCDC_TRACO_TMA-15xxD_24xxD_Dual_THT; Datasheet: https://www.tracopower.com/products/tma.pdf
pins: 1 +Vin, 2 -Vin, 4 -Vout, 5 Com, 6 +Vout

## TMA-1505S
designator *  value TMA-1505S  Reference: U
ki_keywords: Traco isolated isolation dc-dc converter not-regulated non-regulated single 1W; ki_description: 1W DC/DC converter unregulated, 13.5-16.5V input, 5V fixed output voltage, 200mA output, 1.0kVDC isolation, SIP-7; ki_fp_filters: Converter*DCDC*TRACO*TMA*15xx*Single*; Footprint: Converter_DCDC:Converter_DCDC_TRACO_TMA-15xxS_24xxS_Single_THT; Datasheet: https://www.tracopower.com/products/tma.pdf
pins: 1 +Vin, 2 -Vin, 4 -Vout, 6 +Vout

## TMA-1512D
designator *  value TMA-1512D  Reference: U
ki_keywords: Traco isolated isolation dc-dc DC/DC converter not-regulated non-regulated dual 1W; ki_description: 1W DC/DC converter unregulated, 13.5-16.5V input, ±12V fixed output voltage, 42mA each output, 1.0kVDC isolation, SIP-7; ki_fp_filters: Converter*DCDC*TRACO*TMA*15xx*Dual*; Footprint: Converter_DCDC:Converter_DCDC_TRACO_TMA-15xxD_24xxD_Dual_THT; Datasheet: https://www.tracopower.com/products/tma.pdf
pins: 1 +Vin, 2 -Vin, 4 -Vout, 5 Com, 6 +Vout

## TMA-1512S
designator *  value TMA-1512S  Reference: U
ki_keywords: Traco isolated isolation dc-dc converter not-regulated non-regulated single 1W; ki_description: 1W DC/DC converter unregulated, 13.5-16.5V input, 12V fixed output voltage, 84mA output, 1.0kVDC isolation, SIP-7; ki_fp_filters: Converter*DCDC*TRACO*TMA*15xx*Single*; Footprint: Converter_DCDC:Converter_DCDC_TRACO_TMA-15xxS_24xxS_Single_THT; Datasheet: https://www.tracopower.com/products/tma.pdf
pins: 1 +Vin, 2 -Vin, 4 -Vout, 6 +Vout

## TMA-1515D
designator *  value TMA-1515D  Reference: U
ki_keywords: Traco isolated isolation dc-dc DC/DC converter not-regulated non-regulated dual 1W; ki_description: 1W DC/DC converter unregulated, 13.5-16.5V input, ±15V fixed output voltage, 34mA each output, 1.0kVDC isolation, SIP-7; ki_fp_filters: Converter*DCDC*TRACO*TMA*15xx*Dual*; Footprint: Converter_DCDC:Converter_DCDC_TRACO_TMA-15xxD_24xxD_Dual_THT; Datasheet: https://www.tracopower.com/products/tma.pdf
pins: 1 +Vin, 2 -Vin, 4 -Vout, 5 Com, 6 +Vout

## TMA-1515S
designator *  value TMA-1515S  Reference: U
ki_keywords: Traco isolated isolation dc-dc converter not-regulated non-regulated single 1W; ki_description: 1W DC/DC converter unregulated, 13.5-16.5V input, 15V fixed output voltage, 67mA output, 1.0kVDC isolation, SIP-7; ki_fp_filters: Converter*DCDC*TRACO*TMA*15xx*Single*; Footprint: Converter_DCDC:Converter_DCDC_TRACO_TMA-15xxS_24xxS_Single_THT; Datasheet: https://www.tracopower.com/products/tma.pdf
pins: 1 +Vin, 2 -Vin, 4 -Vout, 6 +Vout

## TMA-2405D
designator *  value TMA-2405D  Reference: U
ki_keywords: Traco isolated isolation dc-dc DC/DC converter not-regulated non-regulated dual 1W; ki_description: 1W DC/DC converter unregulated, 21.6-26.4V input, ±5V fixed output voltage, 100mA each output, 1.0kVDC isolation, SIP-7; ki_fp_filters: Converter*DCDC*TRACO*TMA*24xx*Dual*; Footprint: Converter_DCDC:Converter_DCDC_TRACO_TMA-15xxD_24xxD_Dual_THT; Datasheet: https://www.tracopower.com/products/tma.pdf
pins: 1 +Vin, 2 -Vin, 4 -Vout, 5 Com, 6 +Vout

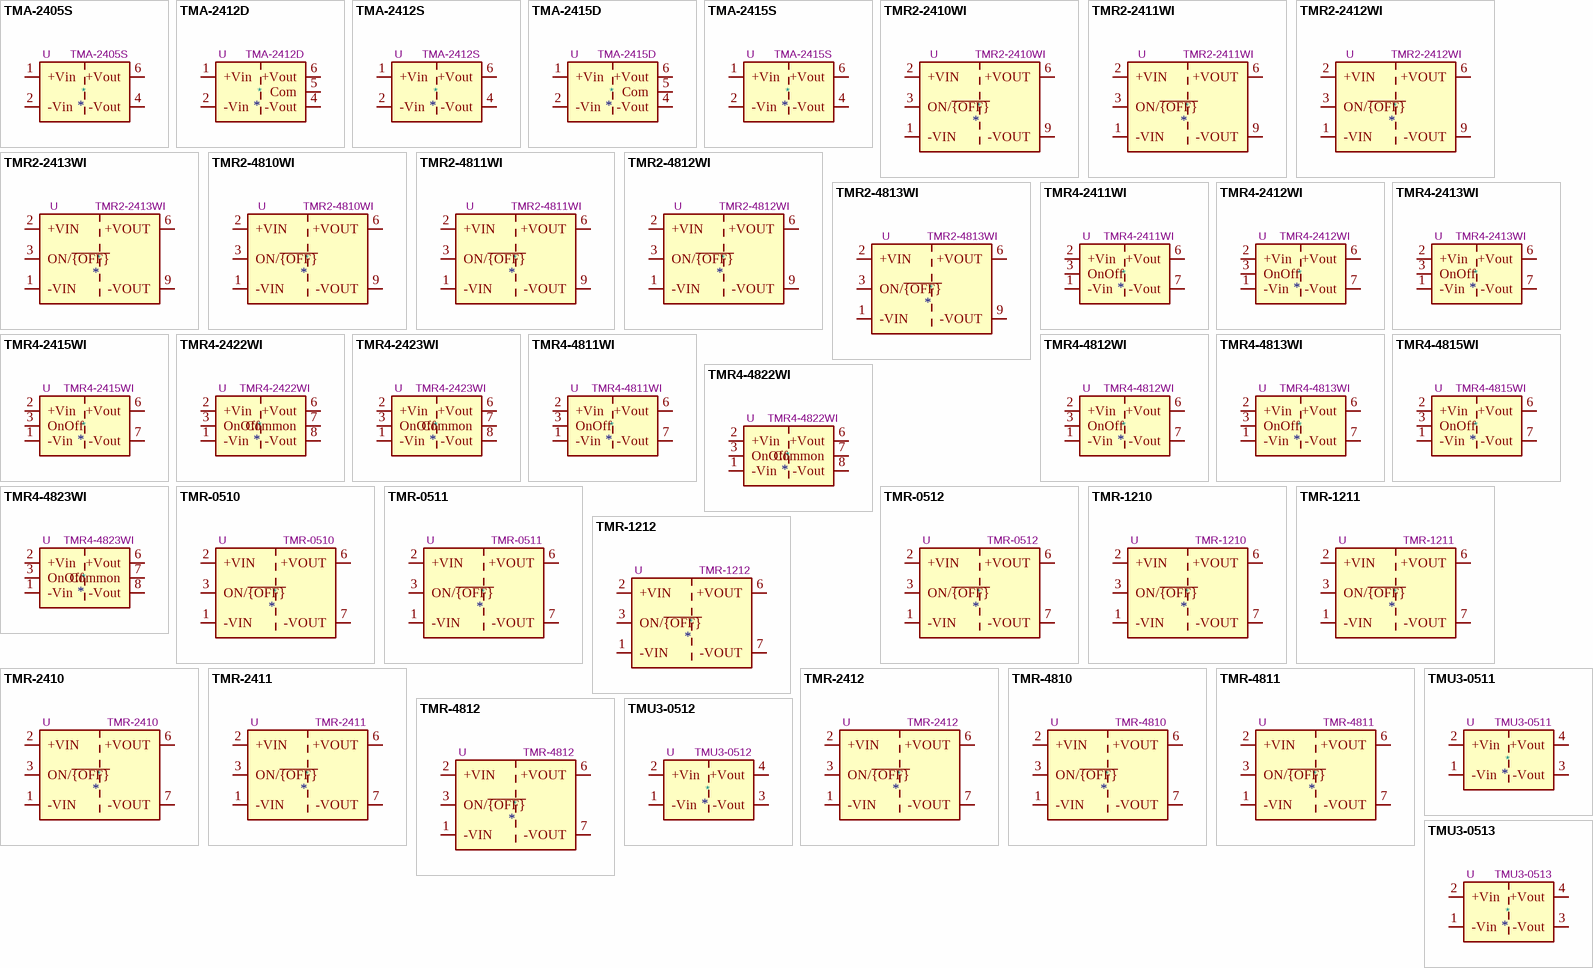
[diagram p15: symbols TMA-2405S to TMU3-0513]

## TMA-2405S
designator *  value TMA-2405S  Reference: U
ki_keywords: Traco isolated isolation dc-dc converter not-regulated non-regulated single 1W; ki_description: 1W DC/DC converter unregulated, 21.6-26.4V input, 5V fixed output voltage, 200mA output, 1.0kVDC isolation, SIP-7; ki_fp_filters: Converter*DCDC*TRACO*TMA*24xx*Single*; Footprint: Converter_DCDC:Converter_DCDC_TRACO_TMA-15xxS_24xxS_Single_THT; Datasheet: https://www.tracopower.com/products/tma.pdf
pins: 1 +Vin, 2 -Vin, 4 -Vout, 6 +Vout

## TMA-2412D
designator *  value TMA-2412D  Reference: U
ki_keywords: Traco isolated isolation dc-dc DC/DC converter not-regulated non-regulated dual 1W; ki_description: 1W DC/DC converter unregulated, 21.6-26.4V input, ±12V fixed output voltage, 42mA each output, 1.0kVDC isolation, SIP-7; ki_fp_filters: Converter*DCDC*TRACO*TMA*24xx*Dual*; Footprint: Converter_DCDC:Converter_DCDC_TRACO_TMA-15xxD_24xxD_Dual_THT; Datasheet: https://www.tracopower.com/products/tma.pdf
pins: 1 +Vin, 2 -Vin, 4 -Vout, 5 Com, 6 +Vout

## TMA-2412S
designator *  value TMA-2412S  Reference: U
ki_keywords: Traco isolated isolation dc-dc converter not-regulated non-regulated single 1W; ki_description: 1W DC/DC converter unregulated, 21.6-26.4V input, 12V fixed output voltage, 84mA output, 1.0kVDC isolation, SIP-7; ki_fp_filters: Converter*DCDC*TRACO*TMA*24xx*Single*; Footprint: Converter_DCDC:Converter_DCDC_TRACO_TMA-15xxS_24xxS_Single_THT; Datasheet: https://www.tracopower.com/products/tma.pdf
pins: 1 +Vin, 2 -Vin, 4 -Vout, 6 +Vout

## TMA-2415D
designator *  value TMA-2415D  Reference: U
ki_keywords: Traco isolated isolation dc-dc DC/DC converter not-regulated non-regulated dual 1W; ki_description: 1W DC/DC converter unregulated, 21.6-26.4V input, ±15V fixed output voltage, 34mA each output, 1.0kVDC isolation, SIP-7; ki_fp_filters: Converter*DCDC*TRACO*TMA*24xx*Dual*; Footprint: Converter_DCDC:Converter_DCDC_TRACO_TMA-15xxD_24xxD_Dual_THT; Datasheet: https://www.tracopower.com/products/tma.pdf
pins: 1 +Vin, 2 -Vin, 4 -Vout, 5 Com, 6 +Vout

## TMA-2415S
designator *  value TMA-2415S  Reference: U
ki_keywords: Traco isolated isolation dc-dc converter not-regulated non-regulated single 1W; ki_description: 1W DC/DC converter unregulated, 21.6-26.4V input, 15V fixed output voltage, 67mA output, 1.0kVDC isolation, SIP-7; ki_fp_filters: Converter*DCDC*TRACO*TMA*24xx*Single*; Footprint: Converter_DCDC:Converter_DCDC_TRACO_TMA-15xxS_24xxS_Single_THT; Datasheet: https://www.tracopower.com/products/tma.pdf
pins: 1 +Vin, 2 -Vin, 4 -Vout, 6 +Vout

## TMR2-2410WI
designator *  value TMR2-2410WI  Reference: U
ki_keywords: Traco isolated isolation dc-dc converter transformer; ki_description: 500mA Regulated 2W DC/DC converter with 1.5kV isolation, 9V-36V input, 3.3V fixed Output Voltage, SIP-9; ki_fp_filters: Converter*DCDC*TRACO*TMR*2xxxxWI*; Footprint: Converter_DCDC:Converter_DCDC_TRACO_TMR-2xxxxWI_THT; Datasheet: https://www.tracopower.com/products/tmr2wi.pdf
pins: 1 -VIN, 2 +VIN, 3 ON/~{{OFF}}, 6 +VOUT, 7 NC hidden, 8 NC hidden, 9 -VOUT

## TMR2-2411WI
designator *  value TMR2-2411WI  Reference: U
ki_keywords: Traco isolated isolation dc-dc converter transformer; ki_description: 400mA Regulated 2W DC/DC converter with 1.5kV isolation, 9V-36V input, 5V fixed Output Voltage, SIP-9; ki_fp_filters: Converter*DCDC*TRACO*TMR*2xxxxWI*; Footprint: Converter_DCDC:Converter_DCDC_TRACO_TMR-2xxxxWI_THT; Datasheet: https://www.tracopower.com/products/tmr2wi.pdf
pins: 1 -VIN, 2 +VIN, 3 ON/~{{OFF}}, 6 +VOUT, 7 NC hidden, 8 NC hidden, 9 -VOUT

## TMR2-2412WI
designator *  value TMR2-2412WI  Reference: U
ki_keywords: Traco isolated isolation dc-dc converter transformer; ki_description: 165mA Regulated 2W DC/DC converter with 1.5kV isolation, 9V-36V input, 12V fixed Output Voltage, SIP-9; ki_fp_filters: Converter*DCDC*TRACO*TMR*2xxxxWI*; Footprint: Converter_DCDC:Converter_DCDC_TRACO_TMR-2xxxxWI_THT; Datasheet: https://www.tracopower.com/products/tmr2wi.pdf
pins: 1 -VIN, 2 +VIN, 3 ON/~{{OFF}}, 6 +VOUT, 7 NC hidden, 8 NC hidden, 9 -VOUT

## TMR2-2413WI
designator *  value TMR2-2413WI  Reference: U
ki_keywords: Traco isolated isolation dc-dc converter transformer; ki_description: 135mA Regulated 2W DC/DC converter with 1.5kV isolation, 9V-36V input, 15V fixed Output Voltage, SIP-9; ki_fp_filters: Converter*DCDC*TRACO*TMR*2xxxxWI*; Footprint: Converter_DCDC:Converter_DCDC_TRACO_TMR-2xxxxWI_THT; Datasheet: https://www.tracopower.com/products/tmr2wi.pdf
pins: 1 -VIN, 2 +VIN, 3 ON/~{{OFF}}, 6 +VOUT, 7 NC hidden, 8 NC hidden, 9 -VOUT

## TMR2-4810WI
designator *  value TMR2-4810WI  Reference: U
ki_keywords: Traco isolated isolation dc-dc converter transformer; ki_description: 500mA Regulated 2W DC/DC converter with 1.5kV isolation, 18V-75V input, 3.3V fixed Output Voltage, SIP-9; ki_fp_filters: Converter*DCDC*TRACO*TMR*2xxxxWI*; Footprint: Converter_DCDC:Converter_DCDC_TRACO_TMR-2xxxxWI_THT; Datasheet: https://www.tracopower.com/products/tmr2wi.pdf
pins: 1 -VIN, 2 +VIN, 3 ON/~{{OFF}}, 6 +VOUT, 7 NC hidden, 8 NC hidden, 9 -VOUT

## TMR2-4811WI
designator *  value TMR2-4811WI  Reference: U
ki_keywords: Traco isolated isolation dc-dc converter transformer; ki_description: 400mA Regulated 2W DC/DC converter with 1.5kV isolation, 18V-75V input, 5V fixed Output Voltage, SIP-9; ki_fp_filters: Converter*DCDC*TRACO*TMR*2xxxxWI*; Footprint: Converter_DCDC:Converter_DCDC_TRACO_TMR-2xxxxWI_THT; Datasheet: https://www.tracopower.com/products/tmr2wi.pdf
pins: 1 -VIN, 2 +VIN, 3 ON/~{{OFF}}, 6 +VOUT, 7 NC hidden, 8 NC hidden, 9 -VOUT

## TMR2-4812WI
designator *  value TMR2-4812WI  Reference: U
ki_keywords: Traco isolated isolation dc-dc converter transformer; ki_description: 165mA Regulated 2W DC/DC converter with 1.5kV isolation, 18V-75V input, 12V fixed Output Voltage, SIP-9; ki_fp_filters: Converter*DCDC*TRACO*TMR*2xxxxWI*; Footprint: Converter_DCDC:Converter_DCDC_TRACO_TMR-2xxxxWI_THT; Datasheet: https://www.tracopower.com/products/tmr2wi.pdf
pins: 1 -VIN, 2 +VIN, 3 ON/~{{OFF}}, 6 +VOUT, 7 NC hidden, 8 NC hidden, 9 -VOUT

## TMR2-4813WI
designator *  value TMR2-4813WI  Reference: U
ki_keywords: Traco isolated isolation dc-dc converter transformer; ki_description: 135mA Regulated 2W DC/DC converter with 1.5kV isolation, 18V-75V input, 15V fixed Output Voltage, SIP-9; ki_fp_filters: Converter*DCDC*TRACO*TMR*2xxxxWI*; Footprint: Converter_DCDC:Converter_DCDC_TRACO_TMR-2xxxxWI_THT; Datasheet: https://www.tracopower.com/products/tmr2wi.pdf
pins: 1 -VIN, 2 +VIN, 3 ON/~{{OFF}}, 6 +VOUT, 7 NC hidden, 8 NC hidden, 9 -VOUT

## TMR4-2411WI
designator *  value TMR4-2411WI  Reference: U
ki_keywords: Traco isolated isolation dc-dc converter regulated single 4W; ki_description: 4W DC/DC converter regulated, 9-36V input, 5V fixed output voltage, 800mA output, 1.6kVDC isolation, SIP-8; ki_fp_filters: Converter*DCDC*TRACO*TMR4*xxxxWI*; Footprint: Converter_DCDC:Converter_DCDC_TRACO_TMR4-xxxxWI_THT; Datasheet: https://www.tracopower.com/products/tmr4wi.pdf
pins: 1 -Vin, 2 +Vin, 3 OnOff, 5 NC hidden, 6 +Vout, 7 -Vout, 8 NC hidden

## TMR4-2412WI
designator *  value TMR4-2412WI  Reference: U
ki_keywords: Traco isolated isolation dc-dc converter regulated single 4W; ki_description: 4W DC/DC converter regulated, 9-36V input, 12V fixed output voltage, 333mA output, 1.6kVDC isolation, SIP-8; ki_fp_filters: Converter*DCDC*TRACO*TMR4*xxxxWI*; Footprint: Converter_DCDC:Converter_DCDC_TRACO_TMR4-xxxxWI_THT; Datasheet: https://www.tracopower.com/products/tmr4wi.pdf
pins: 1 -Vin, 2 +Vin, 3 OnOff, 5 NC hidden, 6 +Vout, 7 -Vout, 8 NC hidden

## TMR4-2413WI
designator *  value TMR4-2413WI  Reference: U
ki_keywords: Traco isolated isolation dc-dc converter regulated single 4W; ki_description: 4W DC/DC converter regulated, 9-36V input, 15V fixed output voltage, 266mA output, 1.6kVDC isolation, SIP-8; ki_fp_filters: Converter*DCDC*TRACO*TMR4*xxxxWI*; Footprint: Converter_DCDC:Converter_DCDC_TRACO_TMR4-xxxxWI_THT; Datasheet: https://www.tracopower.com/products/tmr4wi.pdf
pins: 1 -Vin, 2 +Vin, 3 OnOff, 5 NC hidden, 6 +Vout, 7 -Vout, 8 NC hidden

## TMR4-2415WI
designator *  value TMR4-2415WI  Reference: U
ki_keywords: Traco isolated isolation dc-dc converter regulated single 4W; ki_description: 4W DC/DC converter regulated, 9-36V input, 24V fixed output voltage, 166mA output, 1.6kVDC isolation, SIP-8; ki_fp_filters: Converter*DCDC*TRACO*TMR4*xxxxWI*; Footprint: Converter_DCDC:Converter_DCDC_TRACO_TMR4-xxxxWI_THT; Datasheet: https://www.tracopower.com/products/tmr4wi.pdf
pins: 1 -Vin, 2 +Vin, 3 OnOff, 5 NC hidden, 6 +Vout, 7 -Vout, 8 NC hidden

## TMR4-2422WI
designator *  value TMR4-2422WI  Reference: U
ki_keywords: Traco isolated isolation dc-dc DC/DC converter regulated dual 4W; ki_description: 4W DC/DC converter unregulated, 9-36V input, ±12V fixed output voltage, 166mA each output, 1.6kVDC isolation, SIP-8; ki_fp_filters: Converter*DCDC*TRACO*TMR4*xxxxWI*; Footprint: Converter_DCDC:Converter_DCDC_TRACO_TMR4-xxxxWI_THT; Datasheet: https://www.tracopower.com/products/tmr4wi.pdf
pins: 1 -Vin, 2 +Vin, 3 OnOff, 5 NC hidden, 6 +Vout, 7 Common, 8 -Vout

## TMR4-2423WI
designator *  value TMR4-2423WI  Reference: U
ki_keywords: Traco isolated isolation dc-dc DC/DC converter regulated dual 4W; ki_description: 4W DC/DC converter unregulated, 9-36V input, ±15V fixed output voltage, 133mA each output, 1.6kVDC isolation, SIP-8; ki_fp_filters: Converter*DCDC*TRACO*TMR4*xxxxWI*; Footprint: Converter_DCDC:Converter_DCDC_TRACO_TMR4-xxxxWI_THT; Datasheet: https://www.tracopower.com/products/tmr4wi.pdf
pins: 1 -Vin, 2 +Vin, 3 OnOff, 5 NC hidden, 6 +Vout, 7 Common, 8 -Vout

## TMR4-4811WI
designator *  value TMR4-4811WI  Reference: U
ki_keywords: Traco isolated isolation dc-dc DC/DC converter regulated single 4W; ki_description: 4W DC/DC converter regulated, 18-75V input, 5V fixed output voltage, 800mA output, 1.6kVDC isolation, SIP-8; ki_fp_filters: Converter*DCDC*TRACO*TMR4*xxxxWI*; Footprint: Converter_DCDC:Converter_DCDC_TRACO_TMR4-xxxxWI_THT; Datasheet: https://www.tracopower.com/products/tmr4wi.pdf
pins: 1 -Vin, 2 +Vin, 3 OnOff, 5 NC hidden, 6 +Vout, 7 -Vout, 8 NC hidden

## TMR4-4812WI
designator *  value TMR4-4812WI  Reference: U
ki_keywords: Traco isolated isolation dc-dc converter regulated single 4W; ki_description: 4W DC/DC converter regulated, 18-75V input, 12V fixed output voltage, 333mA output, 1.6kVDC isolation, SIP-8; ki_fp_filters: Converter*DCDC*TRACO*TMR4*xxxxWI*; Footprint: Converter_DCDC:Converter_DCDC_TRACO_TMR4-xxxxWI_THT; Datasheet: https://www.tracopower.com/products/tmr4wi.pdf
pins: 1 -Vin, 2 +Vin, 3 OnOff, 5 NC hidden, 6 +Vout, 7 -Vout, 8 NC hidden

## TMR4-4813WI
designator *  value TMR4-4813WI  Reference: U
ki_keywords: Traco isolated isolation dc-dc converter regulated single 4W; ki_description: 4W DC/DC converter regulated, 18-75V input, 15V fixed output voltage, 266mA output, 1.6kVDC isolation, SIP-8; ki_fp_filters: Converter*DCDC*TRACO*TMR4*xxxxWI*; Footprint: Converter_DCDC:Converter_DCDC_TRACO_TMR4-xxxxWI_THT; Datasheet: https://www.tracopower.com/products/tmr4wi.pdf
pins: 1 -Vin, 2 +Vin, 3 OnOff, 5 NC hidden, 6 +Vout, 7 -Vout, 8 NC hidden

## TMR4-4815WI
designator *  value TMR4-4815WI  Reference: U
ki_keywords: Traco isolated isolation dc-dc converter regulated single 4W; ki_description: 4W DC/DC converter regulated, 18-75V input, 24V fixed output voltage, 166mA output, 1.6kVDC isolation, SIP-8; ki_fp_filters: Converter*DCDC*TRACO*TMR4*xxxxWI*; Footprint: Converter_DCDC:Converter_DCDC_TRACO_TMR4-xxxxWI_THT; Datasheet: https://www.tracopower.com/products/tmr4wi.pdf
pins: 1 -Vin, 2 +Vin, 3 OnOff, 5 NC hidden, 6 +Vout, 7 -Vout, 8 NC hidden

## TMR4-4822WI
designator *  value TMR4-4822WI  Reference: U
ki_keywords: Traco isolated isolation dc-dc DC/DC converter regulated dual 4W; ki_description: 4W DC/DC converter unregulated, 18-75V input, ±12V fixed output voltage, 166mA each output, 1.6kVDC isolation, SIP-8; ki_fp_filters: Converter*DCDC*TRACO*TMR4*xxxxWI*; Footprint: Converter_DCDC:Converter_DCDC_TRACO_TMR4-xxxxWI_THT; Datasheet: https://www.tracopower.com/products/tmr4wi.pdf
pins: 1 -Vin, 2 +Vin, 3 OnOff, 5 NC hidden, 6 +Vout, 7 Common, 8 -Vout

## TMR4-4823WI
designator *  value TMR4-4823WI  Reference: U
ki_keywords: Traco isolated isolation dc-dc DC/DC converter regulated dual 4W; ki_description: 4W DC/DC converter unregulated, 18-75V input, ±15V fixed output voltage, 133mA each output, 1.6kVDC isolation, SIP-8; ki_fp_filters: Converter*DCDC*TRACO*TMR4*xxxxWI*; Footprint: Converter_DCDC:Converter_DCDC_TRACO_TMR4-xxxxWI_THT; Datasheet: https://www.tracopower.com/products/tmr4wi.pdf
pins: 1 -Vin, 2 +Vin, 3 OnOff, 5 NC hidden, 6 +Vout, 7 Common, 8 -Vout

## TMR-0510
designator *  value TMR-0510  Reference: U
ki_keywords: Traco isolated isolation dc-dc converter transformer; ki_description: 500mA Regulated 2W DC/DC converter with 1.5kV isolation, 4.5V-9V input, 3.3V fixed Output Voltage, SIP-8; ki_fp_filters: Converter*DCDC*TRACO*TMR*xxxx*; Footprint: Converter_DCDC:Converter_DCDC_TRACO_TMR-xxxx_THT; Datasheet: https://www.tracopower.com/products/tmr2.pdf
pins: 1 -VIN, 2 +VIN, 3 ON/~{{OFF}}, 5 NC hidden, 6 +VOUT, 7 -VOUT, 8 NC hidden

## TMR-0511
designator *  value TMR-0511  Reference: U
ki_keywords: Traco isolated isolation dc-dc converter transformer; ki_description: 400mA Regulated 2W DC/DC converter with 1.5kV isolation, 4.5V-9V input, 5V fixed Output Voltage, SIP-8; ki_fp_filters: Converter*DCDC*TRACO*TMR*xxxx*; Footprint: Converter_DCDC:Converter_DCDC_TRACO_TMR-xxxx_THT; Datasheet: https://www.tracopower.com/products/tmr2.pdf
pins: 1 -VIN, 2 +VIN, 3 ON/~{{OFF}}, 5 NC hidden, 6 +VOUT, 7 -VOUT, 8 NC hidden

## TMR-0512
designator *  value TMR-0512  Reference: U
ki_keywords: Traco isolated isolation dc-dc converter transformer; ki_description: 165mA Regulated 2W DC/DC converter with 1.5kV isolation, 4.5V-9V input, 12V fixed Output Voltage, SIP-8; ki_fp_filters: Converter*DCDC*TRACO*TMR*xxxx*; Footprint: Converter_DCDC:Converter_DCDC_TRACO_TMR-xxxx_THT; Datasheet: https://www.tracopower.com/products/tmr2.pdf
pins: 1 -VIN, 2 +VIN, 3 ON/~{{OFF}}, 5 NC hidden, 6 +VOUT, 7 -VOUT, 8 NC hidden

## TMR-1210
designator *  value TMR-1210  Reference: U
ki_keywords: Traco isolated isolation dc-dc converter transformer; ki_description: 500mA Regulated 2W DC/DC converter with 1.5kV isolation, 9V-18V input, 3.3V fixed Output Voltage, SIP-8; ki_fp_filters: Converter*DCDC*TRACO*TMR*xxxx*; Footprint: Converter_DCDC:Converter_DCDC_TRACO_TMR-xxxx_THT; Datasheet: https://www.tracopower.com/products/tmr2.pdf
pins: 1 -VIN, 2 +VIN, 3 ON/~{{OFF}}, 5 NC hidden, 6 +VOUT, 7 -VOUT, 8 NC hidden

## TMR-1211
designator *  value TMR-1211  Reference: U
ki_keywords: Traco isolated isolation dc-dc converter transformer; ki_description: 400mA Regulated 2W DC/DC converter with 1.5kV isolation, 9V-18V input, 5V fixed Output Voltage, SIP-8; ki_fp_filters: Converter*DCDC*TRACO*TMR*xxxx*; Footprint: Converter_DCDC:Converter_DCDC_TRACO_TMR-xxxx_THT; Datasheet: https://www.tracopower.com/products/tmr2.pdf
pins: 1 -VIN, 2 +VIN, 3 ON/~{{OFF}}, 5 NC hidden, 6 +VOUT, 7 -VOUT, 8 NC hidden

## TMR-1212
designator *  value TMR-1212  Reference: U
ki_keywords: Traco isolated isolation dc-dc converter transformer; ki_description: 165mA Regulated 2W DC/DC converter with 1.5kV isolation, 9V-18V input, 12V fixed Output Voltage, SIP-8; ki_fp_filters: Converter*DCDC*TRACO*TMR*xxxx*; Footprint: Converter_DCDC:Converter_DCDC_TRACO_TMR-xxxx_THT; Datasheet: https://www.tracopower.com/products/tmr2.pdf
pins: 1 -VIN, 2 +VIN, 3 ON/~{{OFF}}, 5 NC hidden, 6 +VOUT, 7 -VOUT, 8 NC hidden